# Altium footprint library TerminalBlock_WAGO.PcbLib: 170 footprints (part 6 of 11)
Each footprint in its own frame and in the unit in brackets; x right, y up, seen from the top. Pads: shape width x height; smd on the part's side, far side on the other; paste and mask are expansions set on the pad; w line width, h text height; cw(c..) or ccw(c..) is an arc to the next point about the centre after c.
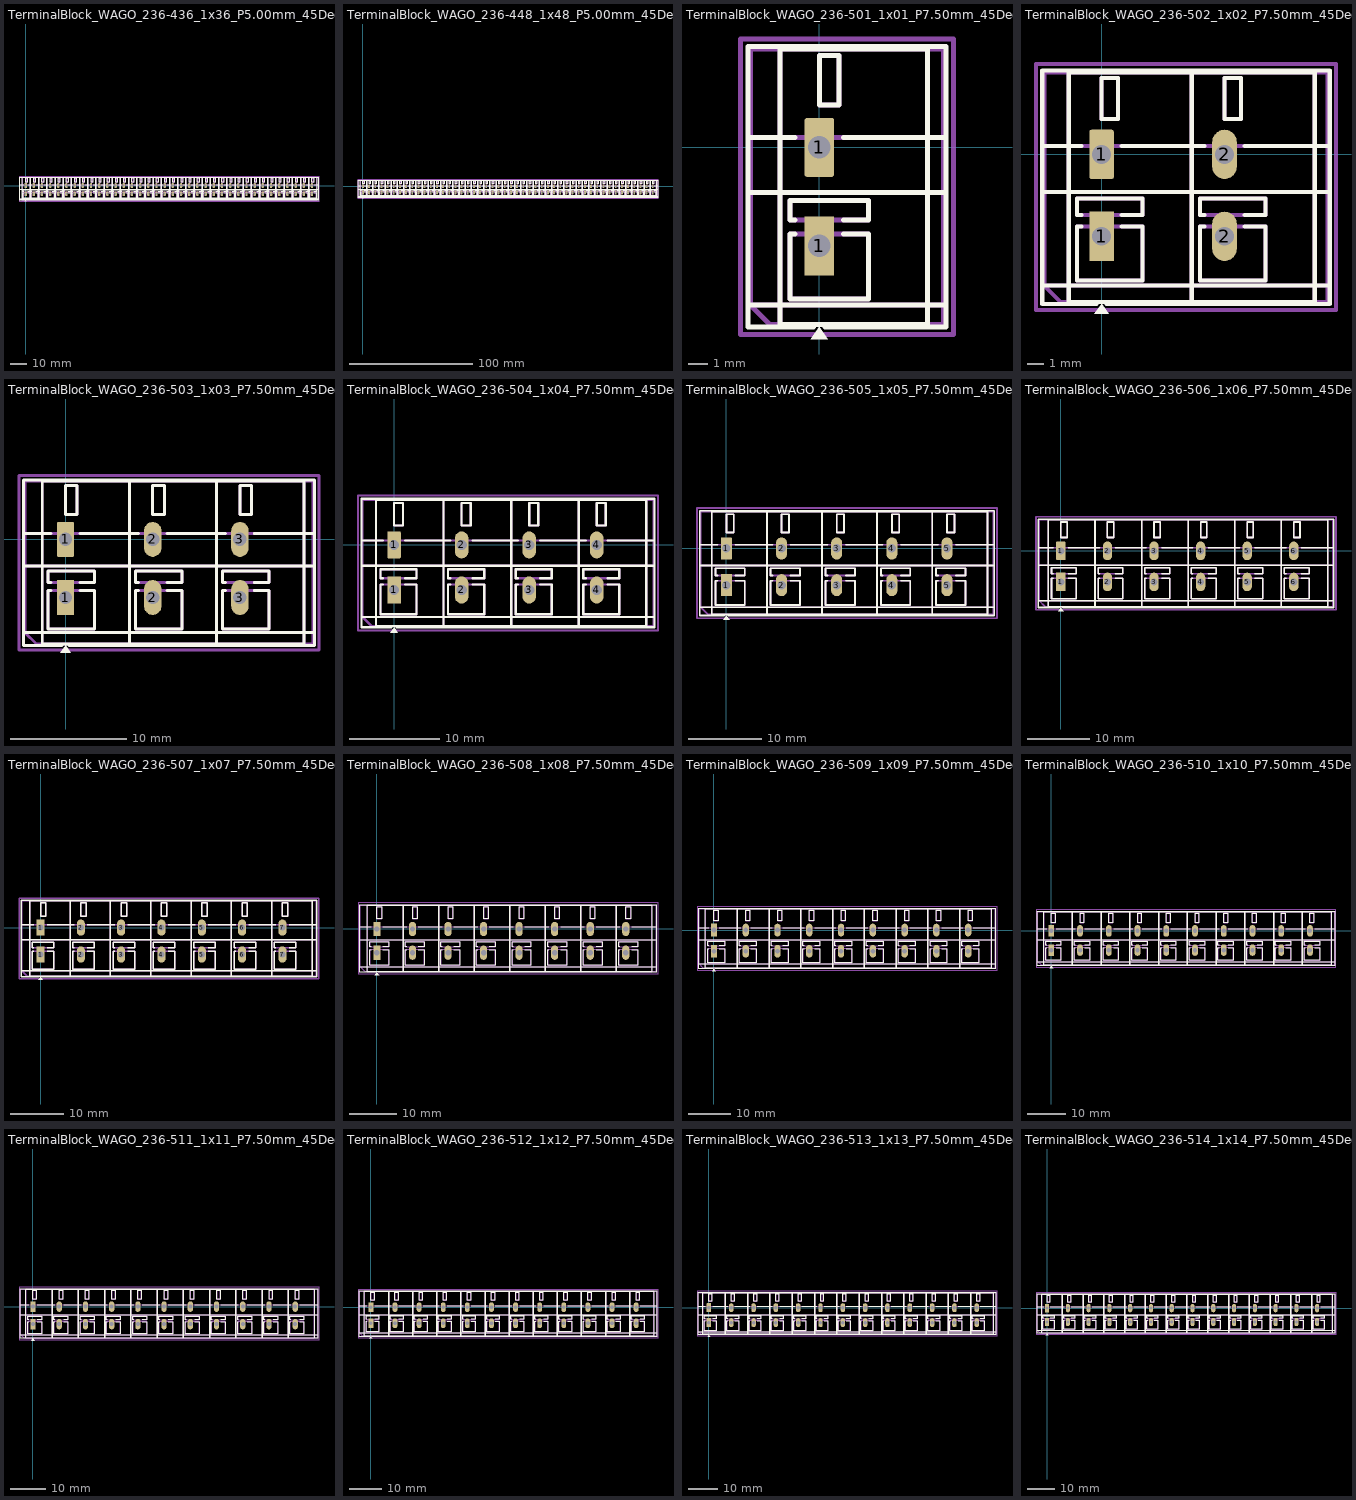
[diagram p5: the footprints below, top view; thin cyan lines are the x and y axes]

## TerminalBlock_WAGO_236-436_1x36_P5.00mm_45Degree [mm]
pads (72):
  rect 1.5x3 hole 1.15: 1(0,-5)
  rrect17% 1.5x3 hole 1.15: 1(0,0)
  rrect100% 1.5x3 hole 1.15: 2(5,-5) 2(5,0) 3(10,-5) 3(10,0) 4(15,-5) 4(15,0) 5(20,-5) 5(20,0) 6(25,-5) 6(25,0) 7(30,-5) 7(30,0) 8(35,-5) 8(35,0) 9(40,-5) 9(40,0) 10(45,-5) 10(45,0) 11(50,-5) 11(50,0) 12(55,-5) 12(55,0) 13(60,-5) 13(60,0) 14(65,-5) 14(65,0) 15(70,-5) 15(70,0) 16(75,-5) 16(75,0) 17(80,-5) 17(80,0) 18(85,-5) 18(85,0) 19(90,-5) 19(90,0) 20(95,-5) 20(95,0) 21(100,-5) 21(100,0) 22(105,-5) 22(105,0) 23(110,-5) 23(110,0) 24(115,-5) 24(115,0) 25(120,-5) 25(120,0) 26(125,-5) 26(125,0) 27(130,-5) 27(130,0) 28(135,-5) 28(135,0) 29(140,-5) 29(140,0) 30(145,-5) 30(145,0) 31(150,-5) 31(150,0) 32(155,-5) 32(155,0) 33(160,-5) 33(160,0) 34(165,-5) 34(165,0) 35(170,-5) 35(170,0) 36(175,-5) 36(175,0)
F.SilkS:
  drawing of 693 lines, arcs and shapes, not listed
F.Fab:
  drawing of 584 lines, arcs and shapes, not listed
  text "'.Designator'" at 83.603,-1.84 h1
F.CrtYd:
  lines w0.254: -4,-9.5 -4,5.5 179.3,5.5 179.3,-9.5 -4,-9.5

## TerminalBlock_WAGO_236-448_1x48_P5.00mm_45Degree [mm]
pads (96):
  rect 1.5x3 hole 1.15: 1(0,-5)
  rrect17% 1.5x3 hole 1.15: 1(0,0)
  rrect100% 1.5x3 hole 1.15: 2(5,-5) 2(5,0) 3(10,-5) 3(10,0) 4(15,-5) 4(15,0) 5(20,-5) 5(20,0) 6(25,-5) 6(25,0) 7(30,-5) 7(30,0) 8(35,-5) 8(35,0) 9(40,-5) 9(40,0) 10(45,-5) 10(45,0) 11(50,-5) 11(50,0) 12(55,-5) 12(55,0) 13(60,-5) 13(60,0) 14(65,-5) 14(65,0) 15(70,-5) 15(70,0) 16(75,-5) 16(75,0) 17(80,-5) 17(80,0) 18(85,-5) 18(85,0) 19(90,-5) 19(90,0) 20(95,-5) 20(95,0) 21(100,-5) 21(100,0) 22(105,-5) 22(105,0) 23(110,-5) 23(110,0) 24(115,-5) 24(115,0) 25(120,-5) 25(120,0) 26(125,-5) 26(125,0) 27(130,-5) 27(130,0) 28(135,-5) 28(135,0) 29(140,-5) 29(140,0) 30(145,-5) 30(145,0) 31(150,-5) 31(150,0) 32(155,-5) 32(155,0) 33(160,-5) 33(160,0) 34(165,-5) 34(165,0) 35(170,-5) 35(170,0) 36(175,-5) 36(175,0) 37(180,-5) 37(180,0) 38(185,-5) 38(185,0) 39(190,-5) 39(190,0) 40(195,-5) 40(195,0) 41(200,-5) 41(200,0) 42(205,-5) 42(205,0) 43(210,-5) 43(210,0) 44(215,-5) 44(215,0) 45(220,-5) 45(220,0) 46(225,-5) 46(225,0) 47(230,-5) 47(230,0) 48(235,-5) 48(235,0)
F.SilkS:
  drawing of 921 lines, arcs and shapes, not listed
F.Fab:
  drawing of 776 lines, arcs and shapes, not listed
  text "'.Designator'" at 113.603,-1.84 h1
F.CrtYd:
  lines w0.254: -4,-9.5 -4,5.5 239.3,5.5 239.3,-9.5 -4,-9.5

## TerminalBlock_WAGO_236-501_1x01_P7.50mm_45Degree [mm]
pads (2):
  rect 1.5x3 hole 1.15: 1(0,-5)
  rrect17% 1.5x3 hole 1.15: 1(0,0)
F.SilkS:
  region: 0.44,-9.73 -0.44,-9.73 0,-9.12
  lines w0.254: -3.62,-8 6.42,-8 ; -3.62,-2.3 6.42,-2.3 ; -3.62,0.5 -1.23,0.5 ; -1.23,-4.4 -1.5,-4.4 -1.5,-7.7 2.5,-7.7 2.5,-4.4 1.23,-4.4 ; -1.23,-3.7 -1.5,-3.7 -1.5,-2.7 2.5,-2.7 2.5,-3.7 1.23,-3.7 ; -0.3,-9.12 -3.62,-9.12 -3.62,5.12 6.42,5.12 6.42,-9.12 0.3,-9.12 ; 1.23,0.5 6.42,0.5 ; -2,-9 -2,5 5.5,5 5.5,-9 -2,-9 ; 0,2.15 0,4.65 1,4.65 1,2.15 0,2.15
F.Fab:
  lines w0.254: -3.5,-2.3 6.3,-2.3 ; -3.5,0.5 6.3,0.5 ; 6.3,-8 -3.5,-8 ; -3.5,-8 -3.5,5 6.3,5 6.3,-9 -2.5,-9 -3.5,-8 ; -2,-9 -2,5 5.5,5 5.5,-9 -2,-9 ; -1.5,-7.7 -1.5,-4.4 2.5,-4.4 2.5,-7.7 -1.5,-7.7 ; -1.5,-3.7 -1.5,-2.7 2.5,-2.7 2.5,-3.7 -1.5,-3.7 ; 0,2.15 0,4.65 1,4.65 1,2.15 0,2.15
  text "'.Designator'" at -2.647,-1.84 h1
F.CrtYd:
  lines w0.254: -4,-9.5 -4,5.5 6.81,5.5 6.81,-9.5 -4,-9.5

## TerminalBlock_WAGO_236-502_1x02_P7.50mm_45Degree [mm]
pads (4):
  rect 1.5x3 hole 1.15: 1(0,-5)
  rrect17% 1.5x3 hole 1.15: 1(0,0)
  rrect100% 1.5x3 hole 1.15: 2(7.5,-5) 2(7.5,0)
F.SilkS:
  region: 0.44,-9.73 -0.44,-9.73 0,-9.12
  lines w0.254: -3.62,-8 13.92,-8 ; -3.62,-2.3 13.92,-2.3 ; -3.62,0.5 -1.23,0.5 ; -1.23,-4.4 -1.5,-4.4 -1.5,-7.7 2.5,-7.7 2.5,-4.4 1.23,-4.4 ; -1.23,-3.7 -1.5,-3.7 -1.5,-2.7 2.5,-2.7 2.5,-3.7 1.23,-3.7 ; -0.3,-9.12 -3.62,-9.12 -3.62,5.12 13.92,5.12 13.92,-9.12 0.3,-9.12 ; 1.23,0.5 6.27,0.5 ; 6.27,-4.4 6,-4.4 6,-7.7 10,-7.7 10,-4.4 8.73,-4.4 ; 6.27,-3.7 6,-3.7 6,-2.7 10,-2.7 10,-3.7 8.73,-3.7 ; 8.73,0.5 13.92,0.5 ; 5.5,-9 5.5,5 ; 5.5,-9 -2,-9 -2,5 5.5,5 ; 5.5,-9 5.5,5 ; 5.5,-9 13,-9 13,5 5.5,5 ; 0,2.15 0,4.65 1,4.65 1,2.15 0,2.15 ; 7.5,2.15 7.5,4.65 8.5,4.65 8.5,2.15 7.5,2.15
F.Fab:
  lines w0.254: -3.5,-2.3 13.8,-2.3 ; -3.5,0.5 13.8,0.5 ; 13.8,-8 -3.5,-8 ; -3.5,-8 -3.5,5 13.8,5 13.8,-9 -2.5,-9 -3.5,-8 ; 5.5,-9 -2,-9 -2,5 5.5,5 ; 5.5,-9 5.5,5 ; 5.5,-9 5.5,5 ; 5.5,-9 13,-9 13,5 5.5,5 ; -1.5,-7.7 -1.5,-4.4 2.5,-4.4 2.5,-7.7 -1.5,-7.7 ; -1.5,-3.7 -1.5,-2.7 2.5,-2.7 2.5,-3.7 -1.5,-3.7 ; 0,2.15 0,4.65 1,4.65 1,2.15 0,2.15 ; 6,-7.7 6,-4.4 10,-4.4 10,-7.7 6,-7.7 ; 6,-3.7 6,-2.7 10,-2.7 10,-3.7 6,-3.7 ; 7.5,2.15 7.5,4.65 8.5,4.65 8.5,2.15 7.5,2.15
  text "'.Designator'" at 1.103,-1.84 h1
F.CrtYd:
  lines w0.254: -4,-9.5 -4,5.5 14.3,5.5 14.3,-9.5 -4,-9.5

## TerminalBlock_WAGO_236-503_1x03_P7.50mm_45Degree [mm]
pads (6):
  rect 1.5x3 hole 1.15: 1(0,-5)
  rrect17% 1.5x3 hole 1.15: 1(0,0)
  rrect100% 1.5x3 hole 1.15: 2(7.5,-5) 2(7.5,0) 3(15,-5) 3(15,0)
F.SilkS:
  region: 0.44,-9.73 -0.44,-9.73 0,-9.12
  lines w0.254: -3.62,-8 21.42,-8 ; -3.62,-2.3 21.42,-2.3 ; -3.62,0.5 -1.23,0.5 ; -1.23,-4.4 -1.5,-4.4 -1.5,-7.7 2.5,-7.7 2.5,-4.4 1.23,-4.4 ; -1.23,-3.7 -1.5,-3.7 -1.5,-2.7 2.5,-2.7 2.5,-3.7 1.23,-3.7 ; -0.3,-9.12 -3.62,-9.12 -3.62,5.12 21.42,5.12 21.42,-9.12 0.3,-9.12 ; 1.23,0.5 6.27,0.5 ; 6.27,-4.4 6,-4.4 6,-7.7 10,-7.7 10,-4.4 8.73,-4.4 ; 6.27,-3.7 6,-3.7 6,-2.7 10,-2.7 10,-3.7 8.73,-3.7 ; 8.73,0.5 13.77,0.5 ; 13.77,-4.4 13.5,-4.4 13.5,-7.7 17.5,-7.7 17.5,-4.4 16.23,-4.4 ; 13.77,-3.7 13.5,-3.7 13.5,-2.7 17.5,-2.7 17.5,-3.7 16.23,-3.7 ; 16.23,0.5 21.42,0.5 ; 5.5,-9 5.5,5 ; 5.5,-9 -2,-9 -2,5 5.5,5 ; 5.5,-9 5.5,5 ; 5.5,-9 13,-9 ; 5.5,5 13,5 ; 13,-9 13,5 ; 13,-9 13,5 ; 13,-9 20.5,-9 20.5,5 13,5 ; 0,2.15 0,4.65 1,4.65 1,2.15 0,2.15 ; 7.5,2.15 7.5,4.65 8.5,4.65 8.5,2.15 7.5,2.15 ; 15,2.15 15,4.65 16,4.65 16,2.15 15,2.15
F.Fab:
  lines w0.254: -3.5,-2.3 21.3,-2.3 ; -3.5,0.5 21.3,0.5 ; 21.3,-8 -3.5,-8 ; -3.5,-8 -3.5,5 21.3,5 21.3,-9 -2.5,-9 -3.5,-8 ; 5.5,-9 -2,-9 -2,5 5.5,5 ; 5.5,-9 5.5,5 ; 5.5,-9 5.5,5 ; 5.5,-9 13,-9 ; 5.5,5 13,5 ; 13,-9 13,5 ; 13,-9 13,5 ; 13,-9 20.5,-9 20.5,5 13,5 ; -1.5,-7.7 -1.5,-4.4 2.5,-4.4 2.5,-7.7 -1.5,-7.7 ; -1.5,-3.7 -1.5,-2.7 2.5,-2.7 2.5,-3.7 -1.5,-3.7 ; 0,2.15 0,4.65 1,4.65 1,2.15 0,2.15 ; 6,-7.7 6,-4.4 10,-4.4 10,-7.7 6,-7.7 ; 6,-3.7 6,-2.7 10,-2.7 10,-3.7 6,-3.7 ; 7.5,2.15 7.5,4.65 8.5,4.65 8.5,2.15 7.5,2.15 ; 13.5,-7.7 13.5,-4.4 17.5,-4.4 17.5,-7.7 13.5,-7.7 ; 13.5,-3.7 13.5,-2.7 17.5,-2.7 17.5,-3.7 13.5,-3.7 ; 15,2.15 15,4.65 16,4.65 16,2.15 15,2.15
  text "'.Designator'" at 4.853,-1.84 h1
F.CrtYd:
  lines w0.254: -4,-9.5 -4,5.5 21.8,5.5 21.8,-9.5 -4,-9.5

## TerminalBlock_WAGO_236-504_1x04_P7.50mm_45Degree [mm]
pads (8):
  rect 1.5x3 hole 1.15: 1(0,-5)
  rrect17% 1.5x3 hole 1.15: 1(0,0)
  rrect100% 1.5x3 hole 1.15: 2(7.5,-5) 2(7.5,0) 3(15,-5) 3(15,0) 4(22.5,-5) 4(22.5,0)
F.SilkS:
  region: 0.44,-9.73 -0.44,-9.73 0,-9.12
  lines w0.254: -3.62,-8 28.92,-8 ; -3.62,-2.3 28.92,-2.3 ; -3.62,0.5 -1.23,0.5 ; -1.23,-4.4 -1.5,-4.4 -1.5,-7.7 2.5,-7.7 2.5,-4.4 1.23,-4.4 ; -1.23,-3.7 -1.5,-3.7 -1.5,-2.7 2.5,-2.7 2.5,-3.7 1.23,-3.7 ; -0.3,-9.12 -3.62,-9.12 -3.62,5.12 28.92,5.12 28.92,-9.12 0.3,-9.12 ; 1.23,0.5 6.27,0.5 ; 6.27,-4.4 6,-4.4 6,-7.7 10,-7.7 10,-4.4 8.73,-4.4 ; 6.27,-3.7 6,-3.7 6,-2.7 10,-2.7 10,-3.7 8.73,-3.7 ; 8.73,0.5 13.77,0.5 ; 13.77,-4.4 13.5,-4.4 13.5,-7.7 17.5,-7.7 17.5,-4.4 16.23,-4.4 ; 13.77,-3.7 13.5,-3.7 13.5,-2.7 17.5,-2.7 17.5,-3.7 16.23,-3.7 ; 16.23,0.5 21.27,0.5 ; 21.27,-4.4 21,-4.4 21,-7.7 25,-7.7 25,-4.4 23.73,-4.4 ; 21.27,-3.7 21,-3.7 21,-2.7 25,-2.7 25,-3.7 23.73,-3.7 ; 23.73,0.5 28.92,0.5 ; 5.5,-9 5.5,5 ; 5.5,-9 -2,-9 -2,5 5.5,5 ; 5.5,-9 5.5,5 ; 5.5,-9 13,-9 ; 5.5,5 13,5 ; 13,-9 13,5 ; 13,-9 13,5 ; 13,-9 20.5,-9 ; 13,5 20.5,5 ; 20.5,-9 20.5,5 ; 20.5,-9 20.5,5 ; 20.5,-9 28,-9 28,5 20.5,5 ; 0,2.15 0,4.65 1,4.65 1,2.15 0,2.15 ; 7.5,2.15 7.5,4.65 8.5,4.65 8.5,2.15 7.5,2.15 ; 15,2.15 15,4.65 16,4.65 16,2.15 15,2.15 ; 22.5,2.15 22.5,4.65 23.5,4.65 23.5,2.15 22.5,2.15
F.Fab:
  lines w0.254: -3.5,-2.3 28.8,-2.3 ; -3.5,0.5 28.8,0.5 ; 28.8,-8 -3.5,-8 ; -3.5,-8 -3.5,5 28.8,5 28.8,-9 -2.5,-9 -3.5,-8 ; 5.5,-9 -2,-9 -2,5 5.5,5 ; 5.5,-9 5.5,5 ; 5.5,-9 5.5,5 ; 5.5,-9 13,-9 ; 5.5,5 13,5 ; 13,-9 13,5 ; 13,-9 13,5 ; 13,-9 20.5,-9 ; 13,5 20.5,5 ; 20.5,-9 20.5,5 ; 20.5,-9 20.5,5 ; 20.5,-9 28,-9 28,5 20.5,5 ; -1.5,-7.7 -1.5,-4.4 2.5,-4.4 2.5,-7.7 -1.5,-7.7 ; -1.5,-3.7 -1.5,-2.7 2.5,-2.7 2.5,-3.7 -1.5,-3.7 ; 0,2.15 0,4.65 1,4.65 1,2.15 0,2.15 ; 6,-7.7 6,-4.4 10,-4.4 10,-7.7 6,-7.7 ; 6,-3.7 6,-2.7 10,-2.7 10,-3.7 6,-3.7 ; 7.5,2.15 7.5,4.65 8.5,4.65 8.5,2.15 7.5,2.15 ; 13.5,-7.7 13.5,-4.4 17.5,-4.4 17.5,-7.7 13.5,-7.7 ; 13.5,-3.7 13.5,-2.7 17.5,-2.7 17.5,-3.7 13.5,-3.7 ; 15,2.15 15,4.65 16,4.65 16,2.15 15,2.15 ; 21,-7.7 21,-4.4 25,-4.4 25,-7.7 21,-7.7 ; 21,-3.7 21,-2.7 25,-2.7 25,-3.7 21,-3.7 ; 22.5,2.15 22.5,4.65 23.5,4.65 23.5,2.15 22.5,2.15
  text "'.Designator'" at 8.603,-1.84 h1
F.CrtYd:
  lines w0.254: -4,-9.5 -4,5.5 29.3,5.5 29.3,-9.5 -4,-9.5

## TerminalBlock_WAGO_236-505_1x05_P7.50mm_45Degree [mm]
pads (10):
  rect 1.5x3 hole 1.15: 1(0,-5)
  rrect17% 1.5x3 hole 1.15: 1(0,0)
  rrect100% 1.5x3 hole 1.15: 2(7.5,-5) 2(7.5,0) 3(15,-5) 3(15,0) 4(22.5,-5) 4(22.5,0) 5(30,-5) 5(30,0)
F.SilkS:
  region: 0.44,-9.73 -0.44,-9.73 0,-9.12
  lines w0.254: -3.62,-8 36.42,-8 ; -3.62,-2.3 36.42,-2.3 ; -3.62,0.5 -1.23,0.5 ; -1.23,-4.4 -1.5,-4.4 -1.5,-7.7 2.5,-7.7 2.5,-4.4 1.23,-4.4 ; -1.23,-3.7 -1.5,-3.7 -1.5,-2.7 2.5,-2.7 2.5,-3.7 1.23,-3.7 ; -0.3,-9.12 -3.62,-9.12 -3.62,5.12 36.42,5.12 36.42,-9.12 0.3,-9.12 ; 1.23,0.5 6.27,0.5 ; 6.27,-4.4 6,-4.4 6,-7.7 10,-7.7 10,-4.4 8.73,-4.4 ; 6.27,-3.7 6,-3.7 6,-2.7 10,-2.7 10,-3.7 8.73,-3.7 ; 8.73,0.5 13.77,0.5 ; 13.77,-4.4 13.5,-4.4 13.5,-7.7 17.5,-7.7 17.5,-4.4 16.23,-4.4 ; 13.77,-3.7 13.5,-3.7 13.5,-2.7 17.5,-2.7 17.5,-3.7 16.23,-3.7 ; 16.23,0.5 21.27,0.5 ; 21.27,-4.4 21,-4.4 21,-7.7 25,-7.7 25,-4.4 23.73,-4.4 ; 21.27,-3.7 21,-3.7 21,-2.7 25,-2.7 25,-3.7 23.73,-3.7 ; 23.73,0.5 28.77,0.5 ; 28.77,-4.4 28.5,-4.4 28.5,-7.7 32.5,-7.7 32.5,-4.4 31.23,-4.4 ; 28.77,-3.7 28.5,-3.7 28.5,-2.7 32.5,-2.7 32.5,-3.7 31.23,-3.7 ; 31.23,0.5 36.42,0.5 ; 5.5,-9 5.5,5 ; 5.5,-9 -2,-9 -2,5 5.5,5 ; 5.5,-9 5.5,5 ; 5.5,-9 13,-9 ; 5.5,5 13,5 ; 13,-9 13,5 ; 13,-9 13,5 ; 13,-9 20.5,-9 ; 13,5 20.5,5 ; 20.5,-9 20.5,5 ; 20.5,-9 20.5,5 ; 20.5,-9 28,-9 ; 20.5,5 28,5 ; 28,-9 28,5 ; 28,-9 28,5 ; 28,-9 35.5,-9 35.5,5 28,5 ; 0,2.15 0,4.65 1,4.65 1,2.15 0,2.15 ; 7.5,2.15 7.5,4.65 8.5,4.65 8.5,2.15 7.5,2.15 ; 15,2.15 15,4.65 16,4.65 16,2.15 15,2.15 ; 22.5,2.15 22.5,4.65 23.5,4.65 23.5,2.15 22.5,2.15 ; 30,2.15 30,4.65 31,4.65 31,2.15 30,2.15
F.Fab:
  lines w0.254: -3.5,-2.3 36.3,-2.3 ; -3.5,0.5 36.3,0.5 ; 36.3,-8 -3.5,-8 ; -3.5,-8 -3.5,5 36.3,5 36.3,-9 -2.5,-9 -3.5,-8 ; 5.5,-9 -2,-9 -2,5 5.5,5 ; 5.5,-9 5.5,5 ; 5.5,-9 5.5,5 ; 5.5,-9 13,-9 ; 5.5,5 13,5 ; 13,-9 13,5 ; 13,-9 13,5 ; 13,-9 20.5,-9 ; 13,5 20.5,5 ; 20.5,-9 20.5,5 ; 20.5,-9 20.5,5 ; 20.5,-9 28,-9 ; 20.5,5 28,5 ; 28,-9 28,5 ; 28,-9 28,5 ; 28,-9 35.5,-9 35.5,5 28,5 ; -1.5,-7.7 -1.5,-4.4 2.5,-4.4 2.5,-7.7 -1.5,-7.7 ; -1.5,-3.7 -1.5,-2.7 2.5,-2.7 2.5,-3.7 -1.5,-3.7 ; 0,2.15 0,4.65 1,4.65 1,2.15 0,2.15 ; 6,-7.7 6,-4.4 10,-4.4 10,-7.7 6,-7.7 ; 6,-3.7 6,-2.7 10,-2.7 10,-3.7 6,-3.7 ; 7.5,2.15 7.5,4.65 8.5,4.65 8.5,2.15 7.5,2.15 ; 13.5,-7.7 13.5,-4.4 17.5,-4.4 17.5,-7.7 13.5,-7.7 ; 13.5,-3.7 13.5,-2.7 17.5,-2.7 17.5,-3.7 13.5,-3.7 ; 15,2.15 15,4.65 16,4.65 16,2.15 15,2.15 ; 21,-7.7 21,-4.4 25,-4.4 25,-7.7 21,-7.7 ; 21,-3.7 21,-2.7 25,-2.7 25,-3.7 21,-3.7 ; 22.5,2.15 22.5,4.65 23.5,4.65 23.5,2.15 22.5,2.15 ; 28.5,-7.7 28.5,-4.4 32.5,-4.4 32.5,-7.7 28.5,-7.7 ; 28.5,-3.7 28.5,-2.7 32.5,-2.7 32.5,-3.7 28.5,-3.7 ; 30,2.15 30,4.65 31,4.65 31,2.15 30,2.15
  text "'.Designator'" at 12.353,-1.84 h1
F.CrtYd:
  lines w0.254: -4,-9.5 -4,5.5 36.8,5.5 36.8,-9.5 -4,-9.5

## TerminalBlock_WAGO_236-506_1x06_P7.50mm_45Degree [mm]
pads (12):
  rect 1.5x3 hole 1.15: 1(0,-5)
  rrect17% 1.5x3 hole 1.15: 1(0,0)
  rrect100% 1.5x3 hole 1.15: 2(7.5,-5) 2(7.5,0) 3(15,-5) 3(15,0) 4(22.5,-5) 4(22.5,0) 5(30,-5) 5(30,0) 6(37.5,-5) 6(37.5,0)
F.SilkS:
  region: 0.44,-9.73 -0.44,-9.73 0,-9.12
  lines w0.254: -3.62,-8 43.92,-8 ; -3.62,-2.3 43.92,-2.3 ; -3.62,0.5 -1.23,0.5 ; -1.23,-4.4 -1.5,-4.4 -1.5,-7.7 2.5,-7.7 2.5,-4.4 1.23,-4.4 ; -1.23,-3.7 -1.5,-3.7 -1.5,-2.7 2.5,-2.7 2.5,-3.7 1.23,-3.7 ; -0.3,-9.12 -3.62,-9.12 -3.62,5.12 43.92,5.12 43.92,-9.12 0.3,-9.12 ; 1.23,0.5 6.27,0.5 ; 6.27,-4.4 6,-4.4 6,-7.7 10,-7.7 10,-4.4 8.73,-4.4 ; 6.27,-3.7 6,-3.7 6,-2.7 10,-2.7 10,-3.7 8.73,-3.7 ; 8.73,0.5 13.77,0.5 ; 13.77,-4.4 13.5,-4.4 13.5,-7.7 17.5,-7.7 17.5,-4.4 16.23,-4.4 ; 13.77,-3.7 13.5,-3.7 13.5,-2.7 17.5,-2.7 17.5,-3.7 16.23,-3.7 ; 16.23,0.5 21.27,0.5 ; 21.27,-4.4 21,-4.4 21,-7.7 25,-7.7 25,-4.4 23.73,-4.4 ; 21.27,-3.7 21,-3.7 21,-2.7 25,-2.7 25,-3.7 23.73,-3.7 ; 23.73,0.5 28.77,0.5 ; 28.77,-4.4 28.5,-4.4 28.5,-7.7 32.5,-7.7 32.5,-4.4 31.23,-4.4 ; 28.77,-3.7 28.5,-3.7 28.5,-2.7 32.5,-2.7 32.5,-3.7 31.23,-3.7 ; 31.23,0.5 36.27,0.5 ; 36.27,-4.4 36,-4.4 36,-7.7 40,-7.7 40,-4.4 38.73,-4.4 ; 36.27,-3.7 36,-3.7 36,-2.7 40,-2.7 40,-3.7 38.73,-3.7 ; 38.73,0.5 43.92,0.5 ; 5.5,-9 5.5,5 ; 5.5,-9 -2,-9 -2,5 5.5,5 ; 5.5,-9 5.5,5 ; 5.5,-9 13,-9 ; 5.5,5 13,5 ; 13,-9 13,5 ; 13,-9 13,5 ; 13,-9 20.5,-9 ; 13,5 20.5,5 ; 20.5,-9 20.5,5 ; 20.5,-9 20.5,5 ; 20.5,-9 28,-9 ; 20.5,5 28,5 ; 28,-9 28,5 ; 28,-9 28,5 ; 28,-9 35.5,-9 ; 28,5 35.5,5 ; 35.5,-9 35.5,5 ; 35.5,-9 35.5,5 ; 35.5,-9 43,-9 43,5 35.5,5 ; 0,2.15 0,4.65 1,4.65 1,2.15 0,2.15 ; 7.5,2.15 7.5,4.65 8.5,4.65 8.5,2.15 7.5,2.15 ; 15,2.15 15,4.65 16,4.65 16,2.15 15,2.15 ; 22.5,2.15 22.5,4.65 23.5,4.65 23.5,2.15 22.5,2.15 ; 30,2.15 30,4.65 31,4.65 31,2.15 30,2.15 ; 37.5,2.15 37.5,4.65 38.5,4.65 38.5,2.15 37.5,2.15
F.Fab:
  lines w0.254: -3.5,-2.3 43.8,-2.3 ; -3.5,0.5 43.8,0.5 ; 43.8,-8 -3.5,-8 ; -3.5,-8 -3.5,5 43.8,5 43.8,-9 -2.5,-9 -3.5,-8 ; 5.5,-9 -2,-9 -2,5 5.5,5 ; 5.5,-9 5.5,5 ; 5.5,-9 5.5,5 ; 5.5,-9 13,-9 ; 5.5,5 13,5 ; 13,-9 13,5 ; 13,-9 13,5 ; 13,-9 20.5,-9 ; 13,5 20.5,5 ; 20.5,-9 20.5,5 ; 20.5,-9 20.5,5 ; 20.5,-9 28,-9 ; 20.5,5 28,5 ; 28,-9 28,5 ; 28,-9 28,5 ; 28,-9 35.5,-9 ; 28,5 35.5,5 ; 35.5,-9 35.5,5 ; 35.5,-9 35.5,5 ; 35.5,-9 43,-9 43,5 35.5,5 ; -1.5,-7.7 -1.5,-4.4 2.5,-4.4 2.5,-7.7 -1.5,-7.7 ; -1.5,-3.7 -1.5,-2.7 2.5,-2.7 2.5,-3.7 -1.5,-3.7 ; 0,2.15 0,4.65 1,4.65 1,2.15 0,2.15 ; 6,-7.7 6,-4.4 10,-4.4 10,-7.7 6,-7.7 ; 6,-3.7 6,-2.7 10,-2.7 10,-3.7 6,-3.7 ; 7.5,2.15 7.5,4.65 8.5,4.65 8.5,2.15 7.5,2.15 ; 13.5,-7.7 13.5,-4.4 17.5,-4.4 17.5,-7.7 13.5,-7.7 ; 13.5,-3.7 13.5,-2.7 17.5,-2.7 17.5,-3.7 13.5,-3.7 ; 15,2.15 15,4.65 16,4.65 16,2.15 15,2.15 ; 21,-7.7 21,-4.4 25,-4.4 25,-7.7 21,-7.7 ; 21,-3.7 21,-2.7 25,-2.7 25,-3.7 21,-3.7 ; 22.5,2.15 22.5,4.65 23.5,4.65 23.5,2.15 22.5,2.15 ; 28.5,-7.7 28.5,-4.4 32.5,-4.4 32.5,-7.7 28.5,-7.7 ; 28.5,-3.7 28.5,-2.7 32.5,-2.7 32.5,-3.7 28.5,-3.7 ; 30,2.15 30,4.65 31,4.65 31,2.15 30,2.15 ; 36,-7.7 36,-4.4 40,-4.4 40,-7.7 36,-7.7 ; 36,-3.7 36,-2.7 40,-2.7 40,-3.7 36,-3.7 ; 37.5,2.15 37.5,4.65 38.5,4.65 38.5,2.15 37.5,2.15
  text "'.Designator'" at 16.103,-1.84 h1
F.CrtYd:
  lines w0.254: -4,-9.5 -4,5.5 44.3,5.5 44.3,-9.5 -4,-9.5

## TerminalBlock_WAGO_236-507_1x07_P7.50mm_45Degree [mm]
pads (14):
  rect 1.5x3 hole 1.15: 1(0,-5)
  rrect17% 1.5x3 hole 1.15: 1(0,0)
  rrect100% 1.5x3 hole 1.15: 2(7.5,-5) 2(7.5,0) 3(15,-5) 3(15,0) 4(22.5,-5) 4(22.5,0) 5(30,-5) 5(30,0) 6(37.5,-5) 6(37.5,0) 7(45,-5) 7(45,0)
F.SilkS:
  region: 0.44,-9.73 -0.44,-9.73 0,-9.12
  lines w0.254: -3.62,-8 51.42,-8 ; -3.62,-2.3 51.42,-2.3 ; -3.62,0.5 -1.23,0.5 ; -1.23,-4.4 -1.5,-4.4 -1.5,-7.7 2.5,-7.7 2.5,-4.4 1.23,-4.4 ; -1.23,-3.7 -1.5,-3.7 -1.5,-2.7 2.5,-2.7 2.5,-3.7 1.23,-3.7 ; -0.3,-9.12 -3.62,-9.12 -3.62,5.12 51.42,5.12 51.42,-9.12 0.3,-9.12 ; 1.23,0.5 6.27,0.5 ; 6.27,-4.4 6,-4.4 6,-7.7 10,-7.7 10,-4.4 8.73,-4.4 ; 6.27,-3.7 6,-3.7 6,-2.7 10,-2.7 10,-3.7 8.73,-3.7 ; 8.73,0.5 13.77,0.5 ; 13.77,-4.4 13.5,-4.4 13.5,-7.7 17.5,-7.7 17.5,-4.4 16.23,-4.4 ; 13.77,-3.7 13.5,-3.7 13.5,-2.7 17.5,-2.7 17.5,-3.7 16.23,-3.7 ; 16.23,0.5 21.27,0.5 ; 21.27,-4.4 21,-4.4 21,-7.7 25,-7.7 25,-4.4 23.73,-4.4 ; 21.27,-3.7 21,-3.7 21,-2.7 25,-2.7 25,-3.7 23.73,-3.7 ; 23.73,0.5 28.77,0.5 ; 28.77,-4.4 28.5,-4.4 28.5,-7.7 32.5,-7.7 32.5,-4.4 31.23,-4.4 ; 28.77,-3.7 28.5,-3.7 28.5,-2.7 32.5,-2.7 32.5,-3.7 31.23,-3.7 ; 31.23,0.5 36.27,0.5 ; 36.27,-4.4 36,-4.4 36,-7.7 40,-7.7 40,-4.4 38.73,-4.4 ; 36.27,-3.7 36,-3.7 36,-2.7 40,-2.7 40,-3.7 38.73,-3.7 ; 38.73,0.5 43.77,0.5 ; 43.77,-4.4 43.5,-4.4 43.5,-7.7 47.5,-7.7 47.5,-4.4 46.23,-4.4 ; 43.77,-3.7 43.5,-3.7 43.5,-2.7 47.5,-2.7 47.5,-3.7 46.23,-3.7 ; 46.23,0.5 51.42,0.5 ; 5.5,-9 5.5,5 ; 5.5,-9 -2,-9 -2,5 5.5,5 ; 5.5,-9 5.5,5 ; 5.5,-9 13,-9 ; 5.5,5 13,5 ; 13,-9 13,5 ; 13,-9 13,5 ; 13,-9 20.5,-9 ; 13,5 20.5,5 ; 20.5,-9 20.5,5 ; 20.5,-9 20.5,5 ; 20.5,-9 28,-9 ; 20.5,5 28,5 ; 28,-9 28,5 ; 28,-9 28,5 ; 28,-9 35.5,-9 ; 28,5 35.5,5 ; 35.5,-9 35.5,5 ; 35.5,-9 35.5,5 ; 35.5,-9 43,-9 ; 35.5,5 43,5 ; 43,-9 43,5 ; 43,-9 43,5 ; 43,-9 50.5,-9 50.5,5 43,5 ; 0,2.15 0,4.65 1,4.65 1,2.15 0,2.15 ; 7.5,2.15 7.5,4.65 8.5,4.65 8.5,2.15 7.5,2.15 ; 15,2.15 15,4.65 16,4.65 16,2.15 15,2.15 ; 22.5,2.15 22.5,4.65 23.5,4.65 23.5,2.15 22.5,2.15 ; 30,2.15 30,4.65 31,4.65 31,2.15 30,2.15 ; 37.5,2.15 37.5,4.65 38.5,4.65 38.5,2.15 37.5,2.15 ; 45,2.15 45,4.65 46,4.65 46,2.15 45,2.15
F.Fab:
  lines w0.254: -3.5,-2.3 51.3,-2.3 ; -3.5,0.5 51.3,0.5 ; 51.3,-8 -3.5,-8 ; -3.5,-8 -3.5,5 51.3,5 51.3,-9 -2.5,-9 -3.5,-8 ; 5.5,-9 -2,-9 -2,5 5.5,5 ; 5.5,-9 5.5,5 ; 5.5,-9 5.5,5 ; 5.5,-9 13,-9 ; 5.5,5 13,5 ; 13,-9 13,5 ; 13,-9 13,5 ; 13,-9 20.5,-9 ; 13,5 20.5,5 ; 20.5,-9 20.5,5 ; 20.5,-9 20.5,5 ; 20.5,-9 28,-9 ; 20.5,5 28,5 ; 28,-9 28,5 ; 28,-9 28,5 ; 28,-9 35.5,-9 ; 28,5 35.5,5 ; 35.5,-9 35.5,5 ; 35.5,-9 35.5,5 ; 35.5,-9 43,-9 ; 35.5,5 43,5 ; 43,-9 43,5 ; 43,-9 43,5 ; 43,-9 50.5,-9 50.5,5 43,5 ; -1.5,-7.7 -1.5,-4.4 2.5,-4.4 2.5,-7.7 -1.5,-7.7 ; -1.5,-3.7 -1.5,-2.7 2.5,-2.7 2.5,-3.7 -1.5,-3.7 ; 0,2.15 0,4.65 1,4.65 1,2.15 0,2.15 ; 6,-7.7 6,-4.4 10,-4.4 10,-7.7 6,-7.7 ; 6,-3.7 6,-2.7 10,-2.7 10,-3.7 6,-3.7 ; 7.5,2.15 7.5,4.65 8.5,4.65 8.5,2.15 7.5,2.15 ; 13.5,-7.7 13.5,-4.4 17.5,-4.4 17.5,-7.7 13.5,-7.7 ; 13.5,-3.7 13.5,-2.7 17.5,-2.7 17.5,-3.7 13.5,-3.7 ; 15,2.15 15,4.65 16,4.65 16,2.15 15,2.15 ; 21,-7.7 21,-4.4 25,-4.4 25,-7.7 21,-7.7 ; 21,-3.7 21,-2.7 25,-2.7 25,-3.7 21,-3.7 ; 22.5,2.15 22.5,4.65 23.5,4.65 23.5,2.15 22.5,2.15 ; 28.5,-7.7 28.5,-4.4 32.5,-4.4 32.5,-7.7 28.5,-7.7 ; 28.5,-3.7 28.5,-2.7 32.5,-2.7 32.5,-3.7 28.5,-3.7 ; 30,2.15 30,4.65 31,4.65 31,2.15 30,2.15 ; 36,-7.7 36,-4.4 40,-4.4 40,-7.7 36,-7.7 ; 36,-3.7 36,-2.7 40,-2.7 40,-3.7 36,-3.7 ; 37.5,2.15 37.5,4.65 38.5,4.65 38.5,2.15 37.5,2.15 ; 43.5,-7.7 43.5,-4.4 47.5,-4.4 47.5,-7.7 43.5,-7.7 ; 43.5,-3.7 43.5,-2.7 47.5,-2.7 47.5,-3.7 43.5,-3.7 ; 45,2.15 45,4.65 46,4.65 46,2.15 45,2.15
  text "'.Designator'" at 19.853,-1.84 h1
F.CrtYd:
  lines w0.254: -4,-9.5 -4,5.5 51.8,5.5 51.8,-9.5 -4,-9.5

## TerminalBlock_WAGO_236-508_1x08_P7.50mm_45Degree [mm]
pads (16):
  rect 1.5x3 hole 1.15: 1(0,-5)
  rrect17% 1.5x3 hole 1.15: 1(0,0)
  rrect100% 1.5x3 hole 1.15: 2(7.5,-5) 2(7.5,0) 3(15,-5) 3(15,0) 4(22.5,-5) 4(22.5,0) 5(30,-5) 5(30,0) 6(37.5,-5) 6(37.5,0) 7(45,-5) 7(45,0) 8(52.5,-5) 8(52.5,0)
F.SilkS:
  drawing of 161 lines, arcs and shapes, not listed
F.Fab:
  lines w0.254: -3.5,-2.3 58.8,-2.3 ; -3.5,0.5 58.8,0.5 ; 58.8,-8 -3.5,-8 ; -3.5,-8 -3.5,5 58.8,5 58.8,-9 -2.5,-9 -3.5,-8 ; 5.5,-9 -2,-9 -2,5 5.5,5 ; 5.5,-9 5.5,5 ; 5.5,-9 5.5,5 ; 5.5,-9 13,-9 ; 5.5,5 13,5 ; 13,-9 13,5 ; 13,-9 13,5 ; 13,-9 20.5,-9 ; 13,5 20.5,5 ; 20.5,-9 20.5,5 ; 20.5,-9 20.5,5 ; 20.5,-9 28,-9 ; 20.5,5 28,5 ; 28,-9 28,5 ; 28,-9 28,5 ; 28,-9 35.5,-9 ; 28,5 35.5,5 ; 35.5,-9 35.5,5 ; 35.5,-9 35.5,5 ; 35.5,-9 43,-9 ; 35.5,5 43,5 ; 43,-9 43,5 ; 43,-9 43,5 ; 43,-9 50.5,-9 ; 43,5 50.5,5 ; 50.5,-9 50.5,5 ; 50.5,-9 50.5,5 ; 50.5,-9 58,-9 58,5 50.5,5 ; -1.5,-7.7 -1.5,-4.4 2.5,-4.4 2.5,-7.7 -1.5,-7.7 ; -1.5,-3.7 -1.5,-2.7 2.5,-2.7 2.5,-3.7 -1.5,-3.7 ; 0,2.15 0,4.65 1,4.65 1,2.15 0,2.15 ; 6,-7.7 6,-4.4 10,-4.4 10,-7.7 6,-7.7 ; 6,-3.7 6,-2.7 10,-2.7 10,-3.7 6,-3.7 ; 7.5,2.15 7.5,4.65 8.5,4.65 8.5,2.15 7.5,2.15 ; 13.5,-7.7 13.5,-4.4 17.5,-4.4 17.5,-7.7 13.5,-7.7 ; 13.5,-3.7 13.5,-2.7 17.5,-2.7 17.5,-3.7 13.5,-3.7 ; 15,2.15 15,4.65 16,4.65 16,2.15 15,2.15 ; 21,-7.7 21,-4.4 25,-4.4 25,-7.7 21,-7.7 ; 21,-3.7 21,-2.7 25,-2.7 25,-3.7 21,-3.7 ; 22.5,2.15 22.5,4.65 23.5,4.65 23.5,2.15 22.5,2.15 ; 28.5,-7.7 28.5,-4.4 32.5,-4.4 32.5,-7.7 28.5,-7.7 ; 28.5,-3.7 28.5,-2.7 32.5,-2.7 32.5,-3.7 28.5,-3.7 ; 30,2.15 30,4.65 31,4.65 31,2.15 30,2.15 ; 36,-7.7 36,-4.4 40,-4.4 40,-7.7 36,-7.7 ; 36,-3.7 36,-2.7 40,-2.7 40,-3.7 36,-3.7 ; 37.5,2.15 37.5,4.65 38.5,4.65 38.5,2.15 37.5,2.15 ; 43.5,-7.7 43.5,-4.4 47.5,-4.4 47.5,-7.7 43.5,-7.7 ; 43.5,-3.7 43.5,-2.7 47.5,-2.7 47.5,-3.7 43.5,-3.7 ; 45,2.15 45,4.65 46,4.65 46,2.15 45,2.15 ; 51,-7.7 51,-4.4 55,-4.4 55,-7.7 51,-7.7 ; 51,-3.7 51,-2.7 55,-2.7 55,-3.7 51,-3.7 ; 52.5,2.15 52.5,4.65 53.5,4.65 53.5,2.15 52.5,2.15
  text "'.Designator'" at 23.603,-1.84 h1
F.CrtYd:
  lines w0.254: -4,-9.5 -4,5.5 59.3,5.5 59.3,-9.5 -4,-9.5

## TerminalBlock_WAGO_236-509_1x09_P7.50mm_45Degree [mm]
pads (18):
  rect 1.5x3 hole 1.15: 1(0,-5)
  rrect17% 1.5x3 hole 1.15: 1(0,0)
  rrect100% 1.5x3 hole 1.15: 2(7.5,-5) 2(7.5,0) 3(15,-5) 3(15,0) 4(22.5,-5) 4(22.5,0) 5(30,-5) 5(30,0) 6(37.5,-5) 6(37.5,0) 7(45,-5) 7(45,0) 8(52.5,-5) 8(52.5,0) 9(60,-5) 9(60,0)
F.SilkS:
  drawing of 180 lines, arcs and shapes, not listed
F.Fab:
  drawing of 152 lines, arcs and shapes, not listed
  text "'.Designator'" at 27.353,-1.84 h1
F.CrtYd:
  lines w0.254: -4,-9.5 -4,5.5 66.8,5.5 66.8,-9.5 -4,-9.5

## TerminalBlock_WAGO_236-510_1x10_P7.50mm_45Degree [mm]
pads (20):
  rect 1.5x3 hole 1.15: 1(0,-5)
  rrect17% 1.5x3 hole 1.15: 1(0,0)
  rrect100% 1.5x3 hole 1.15: 2(7.5,-5) 2(7.5,0) 3(15,-5) 3(15,0) 4(22.5,-5) 4(22.5,0) 5(30,-5) 5(30,0) 6(37.5,-5) 6(37.5,0) 7(45,-5) 7(45,0) 8(52.5,-5) 8(52.5,0) 9(60,-5) 9(60,0) 10(67.5,-5) 10(67.5,0)
F.SilkS:
  drawing of 199 lines, arcs and shapes, not listed
F.Fab:
  drawing of 168 lines, arcs and shapes, not listed
  text "'.Designator'" at 31.103,-1.84 h1
F.CrtYd:
  lines w0.254: -4,-9.5 -4,5.5 74.3,5.5 74.3,-9.5 -4,-9.5

## TerminalBlock_WAGO_236-511_1x11_P7.50mm_45Degree [mm]
pads (22):
  rect 1.5x3 hole 1.15: 1(0,-5)
  rrect17% 1.5x3 hole 1.15: 1(0,0)
  rrect100% 1.5x3 hole 1.15: 2(7.5,-5) 2(7.5,0) 3(15,-5) 3(15,0) 4(22.5,-5) 4(22.5,0) 5(30,-5) 5(30,0) 6(37.5,-5) 6(37.5,0) 7(45,-5) 7(45,0) 8(52.5,-5) 8(52.5,0) 9(60,-5) 9(60,0) 10(67.5,-5) 10(67.5,0) 11(75,-5) 11(75,0)
F.SilkS:
  drawing of 218 lines, arcs and shapes, not listed
F.Fab:
  drawing of 184 lines, arcs and shapes, not listed
  text "'.Designator'" at 34.853,-1.84 h1
F.CrtYd:
  lines w0.254: -4,-9.5 -4,5.5 81.8,5.5 81.8,-9.5 -4,-9.5

## TerminalBlock_WAGO_236-512_1x12_P7.50mm_45Degree [mm]
pads (24):
  rect 1.5x3 hole 1.15: 1(0,-5)
  rrect17% 1.5x3 hole 1.15: 1(0,0)
  rrect100% 1.5x3 hole 1.15: 2(7.5,-5) 2(7.5,0) 3(15,-5) 3(15,0) 4(22.5,-5) 4(22.5,0) 5(30,-5) 5(30,0) 6(37.5,-5) 6(37.5,0) 7(45,-5) 7(45,0) 8(52.5,-5) 8(52.5,0) 9(60,-5) 9(60,0) 10(67.5,-5) 10(67.5,0) 11(75,-5) 11(75,0) 12(82.5,-5) 12(82.5,0)
F.SilkS:
  drawing of 237 lines, arcs and shapes, not listed
F.Fab:
  drawing of 200 lines, arcs and shapes, not listed
  text "'.Designator'" at 38.603,-1.84 h1
F.CrtYd:
  lines w0.254: -4,-9.5 -4,5.5 89.3,5.5 89.3,-9.5 -4,-9.5

## TerminalBlock_WAGO_236-513_1x13_P7.50mm_45Degree [mm]
pads (26):
  rect 1.5x3 hole 1.15: 1(0,-5)
  rrect17% 1.5x3 hole 1.15: 1(0,0)
  rrect100% 1.5x3 hole 1.15: 2(7.5,-5) 2(7.5,0) 3(15,-5) 3(15,0) 4(22.5,-5) 4(22.5,0) 5(30,-5) 5(30,0) 6(37.5,-5) 6(37.5,0) 7(45,-5) 7(45,0) 8(52.5,-5) 8(52.5,0) 9(60,-5) 9(60,0) 10(67.5,-5) 10(67.5,0) 11(75,-5) 11(75,0) 12(82.5,-5) 12(82.5,0) 13(90,-5) 13(90,0)
F.SilkS:
  drawing of 256 lines, arcs and shapes, not listed
F.Fab:
  drawing of 216 lines, arcs and shapes, not listed
  text "'.Designator'" at 42.353,-1.84 h1
F.CrtYd:
  lines w0.254: -4,-9.5 -4,5.5 96.8,5.5 96.8,-9.5 -4,-9.5

## TerminalBlock_WAGO_236-514_1x14_P7.50mm_45Degree [mm]
pads (28):
  rect 1.5x3 hole 1.15: 1(0,-5)
  rrect17% 1.5x3 hole 1.15: 1(0,0)
  rrect100% 1.5x3 hole 1.15: 2(7.5,-5) 2(7.5,0) 3(15,-5) 3(15,0) 4(22.5,-5) 4(22.5,0) 5(30,-5) 5(30,0) 6(37.5,-5) 6(37.5,0) 7(45,-5) 7(45,0) 8(52.5,-5) 8(52.5,0) 9(60,-5) 9(60,0) 10(67.5,-5) 10(67.5,0) 11(75,-5) 11(75,0) 12(82.5,-5) 12(82.5,0) 13(90,-5) 13(90,0) 14(97.5,-5) 14(97.5,0)
F.SilkS:
  drawing of 275 lines, arcs and shapes, not listed
F.Fab:
  drawing of 232 lines, arcs and shapes, not listed
  text "'.Designator'" at 46.103,-1.84 h1
F.CrtYd:
  lines w0.254: -4,-9.5 -4,5.5 104.3,5.5 104.3,-9.5 -4,-9.5